# EAGLE library part SSCMRR (library exoteric-analytics-custom)
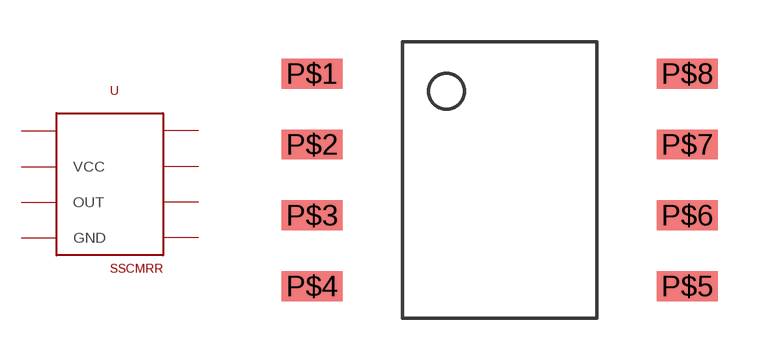
[diagram p9: symbol with the pads of SCCMRR; footprint SCCMRR]

Designator prefix -

## SSCMRR  [SCCMRR]
P$1  P$1  nc
P$2  VCC  pwr
P$3  OUT  out
P$4  GND  pwr
P$5  P$5  nc
P$6  P$6  nc
P$7  P$7  nc
P$8  P$8  nc

## Footprint SCCMRR (pad centres in mm)
smd 2.184 x 1.067: P$1 -6.731,3.81; P$2 -6.731,1.27; P$3 -6.731,-1.27; P$4 -6.731,-3.81; P$5 6.731,-3.81; P$6 6.731,-1.27; P$7 6.731,1.27; P$8 6.731,3.81